# Altium footprint library SnapEDApcb.PcbLib: 1 footprints
Each footprint in its own frame and in the unit in brackets; x right, y up, seen from the top. Pads: shape width x height; smd on the part's side, far side on the other; paste and mask are expansions set on the pad; w line width, h text height; cw(c..) or ccw(c..) is an arc to the next point about the centre after c.
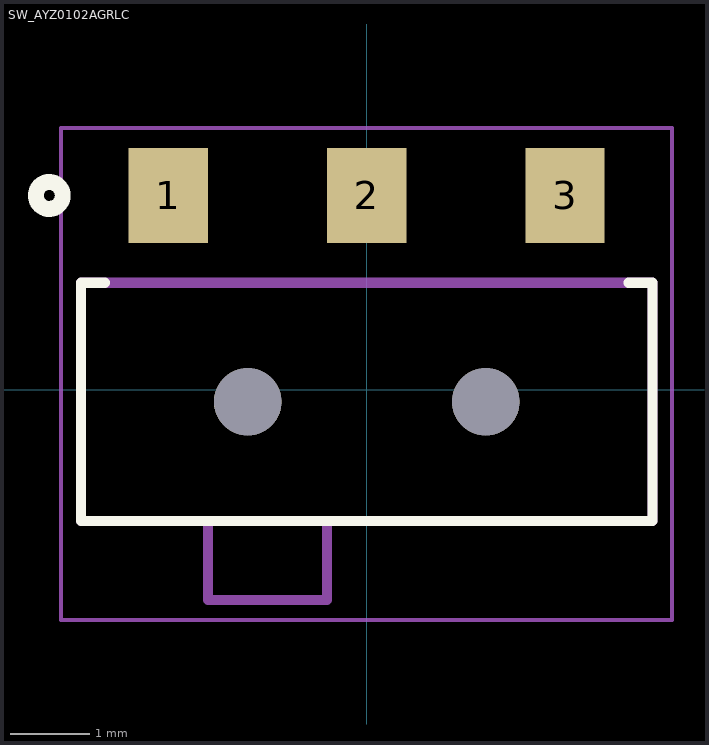
[diagram p0: the footprint, top view; thin cyan lines are the x and y axes]

## SW_AYZ0102AGRLC [mm]
pads (5):
  rect 1x1.2 smd: 1(-2.5,2.45) 2(0,2.45) 3(2.5,2.45)
  round 0.85 hole 0.85 unplated: ""(-1.5,-0.15) ""(1.5,-0.15)
Top Overlay:
  circle w0.2: c-4,2.45 r0.17
  lines w0.127: -3.3,1.35 -3.6,1.35 -3.6,-1.65 3.6,-1.65 3.6,1.35 3.3,1.35
Mechanical 13:
  lines w0.127: -2,-1.65 -0.5,-1.65 ; -2,-1.65 -3.6,-1.65 -3.6,1.35 3.6,1.35 3.6,-1.65 -0.5,-1.65 ; -2,-1.65 -2,-2.65 -0.5,-2.65 -0.5,-1.65
Mechanical 15:
  lines w0.05: -3.85,-2.9 -3.85,3.3 3.85,3.3 3.85,-2.9 -3.85,-2.9